# Altium integrated library TL431ILPG.IntLib: 1 symbol
Pins are listed as number, name and electrical type; pins without a type are passive.

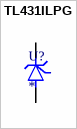
[diagram p0: symbol TL431ILPG]

## TL431ILPG
designator U?
Pwr Sply Func, Voltage Reference, Shunt, TO-92, VS 36V, IS 1 to 100mA, PD 0.7W | ON Semiconductor TL431ILPG; SnapEDA_Link: https://www.snapeda.com/parts/TL431ILPG/Onsemi/view-part/?ref=snap; Package: TO-92-3 ON Semiconductor; Value: *; MF: ON Semiconductor; MP: TL431ILPG; Check_prices: https://www.snapeda.com/parts/TL431ILPG/Onsemi/view-part/?ref=eda
footprint TO92127P520H660-3
pins: 1 REF, 2 A, 3 C